# Altium schematic symbol library altium-practice-macropad.SCHLIB: 4 symbols
Pins are listed as number, name and electrical type; pins without a type are passive.

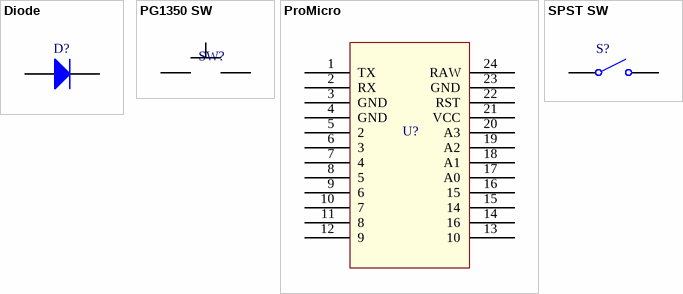
[diagram p0: symbols Diode to SPST SW]

## Diode
designator D?  (value not drawn)
AF: 1; BV: 0; BV_MAX: 1e99; EG: 1.11; FC: 0.5; IBV: 0.001; ISR: 1e-14; MJSW: 0.33; NTUN: 30; TNOM: 27; XTI: 3; SimulationGenericComponent: True; CJO: 0; CJP: 0; CTA: 0; CTP: 0; FCS: 0.5; FV_MAX: 1e99; IKF: 0; IKR: 0; JSW: 0; JTUN: 0; JTUNSW: 0; KEG: 1; KF: 0; LEVEL: 1; N: 1; NBV: 1; NR: 1; NS: 1; PHP: 1; RS: 0; TCV: 0; TLEV: 0; TLEVC: 0; TM1: 0; TM2: 0; TPB: 0; TPHP: 0; TRS: 0; TRS2: 0; TT: 0; TTT1: 0; TTT2: 0; VJ: 1; XTITUN: 3; IS: 1e-14
simulation model diode (Diodes)
pins: 1 A, 2 K

## PG1350 SW
designator SW?  (value not drawn)
footprint PG1350
pins: 1, 2

## ProMicro
designator U?  (value not drawn)
footprint ProMicroHeaders
pins: 1 TX (power), 2 RX (power), 3 GND (power), 4 GND (power), 5 2 (power), 6 3 (power), 7 4 (power), 8 5 (power), 9 6 (power), 10 7 (power), 11 8 (power), 12 9 (power), 13 10 (power), 14 16 (power), 15 14 (power), 16 15 (power), 17 A0 (power), 18 A1 (power), 19 A2 (power), 20 A3 (power), 21 VCC (power), 22 RST (power), 23 GND (power), 24 RAW (power)

## SPST SW
designator S?, comment Single-Pole, Single-Throw Switch  (value not drawn)
closed: 0; Rclosed: 1m; Ropen: 1Meg; SimulationGenericComponent: True
simulation model SPST_SWITCH (-------------------------)
footprint PG1350
pins: 1, 2